# Altium footprint library Connector-Mezzanine.PcbLib: 4 footprints
Each footprint in its own frame and in the unit in brackets; x right, y up, seen from the top. Pads: shape width x height; smd on the part's side, far side on the other; paste and mask are expansions set on the pad; w line width, h text height; cw(c..) or ccw(c..) is an arc to the next point about the centre after c.
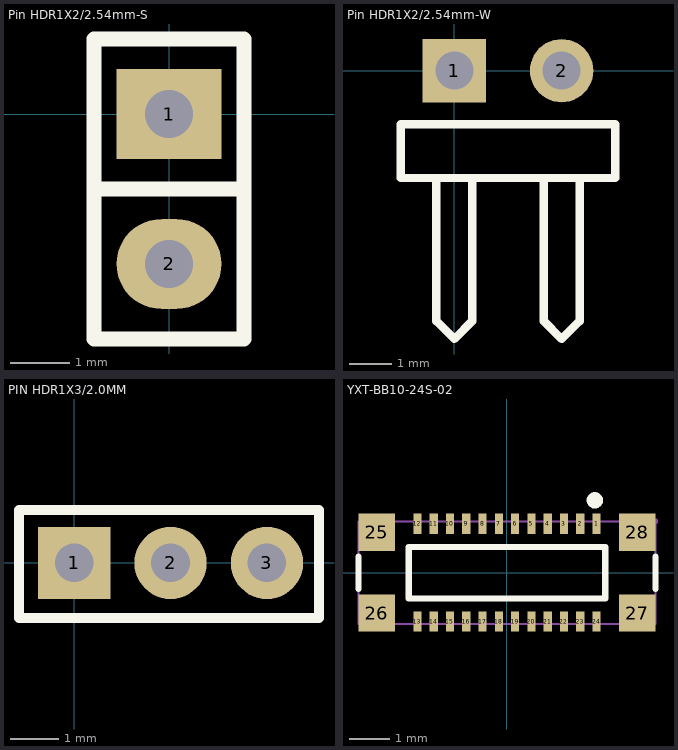
[diagram p0: the footprints below, top view; thin cyan lines are the x and y axes]

## Pin HDR1X2/2.54mm-S [mil]
pads (2):
  rect 70x60 hole 32: 1(0,0)
  oval 70x60 hole 32: 2(0,-100)
Top Overlay:
  lines w10: -50,-50 50,-50 ; -50,-150 50,-150 50,50 -50,50 -50,-150
Top Value:
  text "'.Comment'" at -14.42,135 h78.74
Top Designator:
  text "'.Designator'" at -11.24,180 h78.74
Top Assembly (Mech20):
  lines w6: -50,-50 50,-50 ; -50,-150 -50,50 50,50 50,-150 -50,-150
3D body "1001-2.STEP": height 336.22, standoff -118.11, extent -50,-150 50,50

## Pin HDR1X2/2.54mm-W [mm] "Connector; Header; 2 Position; Right Angle"
pads (2):
  rect 1.5x1.5 hole 0.9: 1(0,0)
  round 1.5 hole 0.9: 2(2.54,0)
Top Overlay:
  lines w0.2: -0.423,-2.54 -0.423,-5.927 0,-6.35 0.423,-5.927 0.423,-2.54 ; 2.117,-2.54 2.117,-5.927 2.54,-6.35 2.963,-5.927 2.963,-2.54 ; -1.27,-2.54 -1.27,-1.27 3.81,-1.27 3.81,-2.54 -1.27,-2.54
Top Value:
  text "'.Comment'" at 0.904,0.762 h2
Top Designator:
  text "'.Designator'" at 0.984,1.905 h2
3D body "hdr2.stp": height 2.54, standoff -1, extent -1.27,-10.001 3.81,0.349

## PIN HDR1X3/2.0MM [mm]
pads (3):
  rect 1.5x1.5 hole 0.8: 1(0,0)
  round 1.5 hole 0.8: 2(2,0) 3(4,0)
Top Overlay:
  lines w0.2: -1.143,-1.143 -1.143,1.1 ; 0.92,1.1 3.302,1.1 ; 5.08,-1.143 5.08,1.1
  lines w0.203: -1.143,-1.143 5.08,-1.143 ; -1.143,1.1 0.92,1.1 ; 3.302,1.1 5.08,1.1
Top Value:
  text "'.Comment'" at -0.446,-0.367 h1.14
Top Designator:
  text "'.Designator'" at -2.345,-0.621 h1.52

## YXT-BB10-24S-02 [mm] "间距:0.4mm PIN:24P 母 立贴"
pads (28):
  rect 0.2x0.5 smd paste+0 mask+0.05: 1(2.2,1.2) 2(1.8,1.2) 3(1.4,1.2) 4(1,1.2) 5(0.6,1.2) 6(0.2,1.2) 7(-0.2,1.2) 8(-0.6,1.2) 9(-1,1.2) 10(-1.4,1.2) 11(-1.8,1.2) 12(-2.2,1.2) 13(-2.2,-1.2) 14(-1.8,-1.2) 15(-1.4,-1.2) 16(-1,-1.2) 17(-0.6,-1.2) 18(-0.2,-1.2) 19(0.2,-1.2) 20(0.6,-1.2) 21(1,-1.2) 22(1.4,-1.2) 23(1.8,-1.2) 24(2.2,-1.2)
  rect 0.9x0.92 smd paste+0 mask+0.05: 25(-3.2,0.99) 26(-3.2,-0.99) 27(3.2,-0.99) 28(3.2,0.99)
Top Overlay:
  circle w0.2: c2.159,1.778 r0.1
  lines w0.152: -3.65,-0.4 -3.65,0.4 ; 3.65,-0.4 3.65,0.4 ; -2.413,-0.635 2.413,-0.635 2.413,0.635 -2.413,0.635 -2.413,-0.635
Top Value:
  text "'.Comment'" at -2.446,-0.367 h1.14
Top Designator:
  text "'.Designator'" at -4.345,-0.621 h1.52
Top Assembly (Mech20):
  drawing of 33 lines, arcs and shapes, not listed
3D body "YXT-BB10-24S-02.step": height 0.8, standoff -0.02, extent -3.65,-1.3 3.65,1.3